# Altium footprint library Stiftleiste_2x7_SMD.PcbLib: 1 footprints
Each footprint in its own frame and in the unit in brackets; x right, y up, seen from the top. Pads: shape width x height; smd on the part's side, far side on the other; paste and mask are expansions set on the pad; w line width, h text height; cw(c..) or ccw(c..) is an arc to the next point about the centre after c.
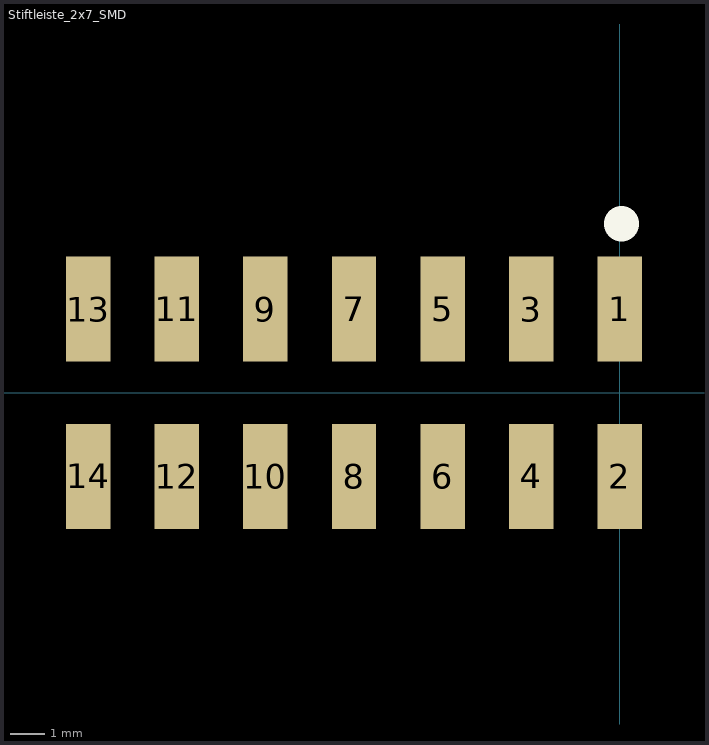
[diagram p0: the footprint, top view; thin cyan lines are the x and y axes]

## Stiftleiste_2x7_SMD [mm]
pads (14):
  rect 1.27x3 smd: 1(0,2.4) 2(0,-2.4) 3(-2.54,2.4) 4(-2.54,-2.4) 5(-5.08,2.4) 6(-5.08,-2.4) 7(-7.62,2.4) 8(-7.62,-2.4) 9(-10.16,2.4) 10(-10.16,-2.4) 11(-12.7,2.4) 12(-12.7,-2.4) 13(-15.24,2.4) 14(-15.24,-2.4)
Top Overlay:
  lines w1: 0.051,4.839 ccw(c-0.074,4.85) 0.051,4.85